# Altium footprint library SnapEDApcb.PcbLib: 1 footprints
Each footprint in its own frame and in the unit in brackets; x right, y up, seen from the top. Pads: shape width x height; smd on the part's side, far side on the other; paste and mask are expansions set on the pad; w line width, h text height; cw(c..) or ccw(c..) is an arc to the next point about the centre after c.
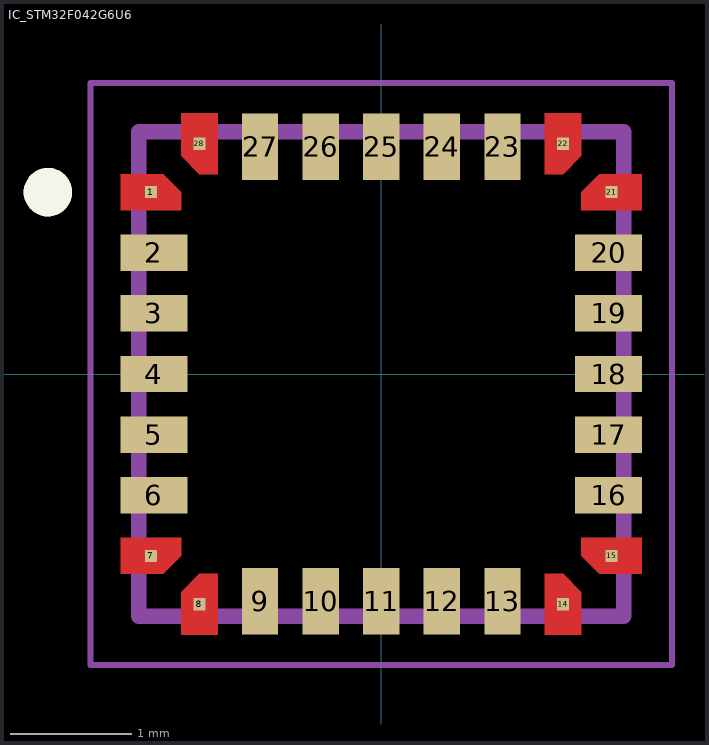
[diagram p0: the footprint, top view; thin cyan lines are the x and y axes]

## IC_STM32F042G6U6 [mm]
pads (28):
  rect 0.1x0.1 smd paste-1 mask+0: 1(-1.9,1.5) 7(-1.9,-1.5) 8(-1.5,-1.9) 14(1.5,-1.9) 15(1.9,-1.5) 21(1.9,1.5) 22(1.5,1.9) 28(-1.5,1.9)
  rect 0.55x0.3 smd: 2(-1.875,1) 3(-1.875,0.5) 4(-1.875,0) 5(-1.875,-0.5) 6(-1.875,-1) 16(1.875,-1) 17(1.875,-0.5) 18(1.875,0) 19(1.875,0.5) 20(1.875,1)
  rect 0.3x0.55 smd: 9(-1,-1.875) 10(-0.5,-1.875) 11(0,-1.875) 12(0.5,-1.875) 13(1,-1.875) 23(1,1.875) 24(0.5,1.875) 25(0,1.875) 26(-0.5,1.875) 27(-1,1.875)
Top Layer:
  region: -1.65,1.5 -1.65,1.35 -2.15,1.35 -2.15,1.65 -1.8,1.65
  region: -1.65,-1.5 -1.8,-1.65 -2.15,-1.65 -2.15,-1.35 -1.65,-1.35
  region: -1.35,-2.15 -1.65,-2.15 -1.65,-1.8 -1.5,-1.65 -1.35,-1.65
  region: 1.65,-1.8 1.65,-2.15 1.35,-2.15 1.35,-1.65 1.5,-1.65
  region: 2.15,-1.65 1.8,-1.65 1.65,-1.5 1.65,-1.35 2.15,-1.35
  region: 2.15,1.35 1.65,1.35 1.65,1.5 1.8,1.65 2.15,1.65
  region: 1.65,1.8 1.5,1.65 1.35,1.65 1.35,2.15 1.65,2.15
  region: -1.35,1.65 -1.5,1.65 -1.65,1.8 -1.65,2.15 -1.35,2.15
Top Overlay:
  circle w0.2: c-2.75,1.5 r0.1
Top Paste:
  region: -1.65,1.5 -1.65,1.35 -2.15,1.35 -2.15,1.65 -1.8,1.65
  region: -1.65,-1.5 -1.8,-1.65 -2.15,-1.65 -2.15,-1.35 -1.65,-1.35
  region: -1.35,-2.15 -1.65,-2.15 -1.65,-1.8 -1.5,-1.65 -1.35,-1.65
  region: 1.65,-1.8 1.65,-2.15 1.35,-2.15 1.35,-1.65 1.5,-1.65
  region: 2.15,-1.65 1.8,-1.65 1.65,-1.5 1.65,-1.35 2.15,-1.35
  region: 2.15,1.35 1.65,1.35 1.65,1.5 1.8,1.65 2.15,1.65
  region: 1.65,1.8 1.5,1.65 1.35,1.65 1.35,2.15 1.65,2.15
  region: -1.35,1.65 -1.5,1.65 -1.65,1.8 -1.65,2.15 -1.35,2.15
Top Solder:
  region: -1.55,1.5 -1.55,1.25 -2.25,1.25 -2.25,1.75 -1.8,1.75
  region: -1.55,-1.5 -1.8,-1.75 -2.25,-1.75 -2.25,-1.25 -1.55,-1.25
  region: -1.25,-2.25 -1.75,-2.25 -1.75,-1.8 -1.5,-1.55 -1.25,-1.55
  region: 1.75,-1.8 1.75,-2.25 1.25,-2.25 1.25,-1.55 1.5,-1.55
  region: 2.25,-1.75 1.8,-1.75 1.55,-1.5 1.55,-1.25 2.25,-1.25
  region: 2.25,1.25 1.55,1.25 1.55,1.5 1.8,1.75 2.25,1.75
  region: 1.75,1.8 1.5,1.55 1.25,1.55 1.25,2.25 1.75,2.25
  region: -1.25,1.55 -1.5,1.55 -1.75,1.8 -1.75,2.25 -1.25,2.25
Mechanical 13:
  circle w0.2: c-2.75,1.5 r0.1
  lines w0.127: -2,-2 2,-2 2,2 -2,2 -2,-2
Mechanical 15:
  lines w0.05: -2.4,-2.4 2.4,-2.4 2.4,2.4 -2.4,2.4 -2.4,-2.4